# Altium schematic symbol library J10MM.Schlib: 1 symbol
Pins are listed as number, name and electrical type; pins without a type are passive.

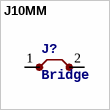
[diagram p0: symbol J10MM]

## J10MM
designator J?, comment Bridge
footprint 10
pins: 1, 2